# EAGLE library part MAX11634EEE+T (library CurrentSensing)
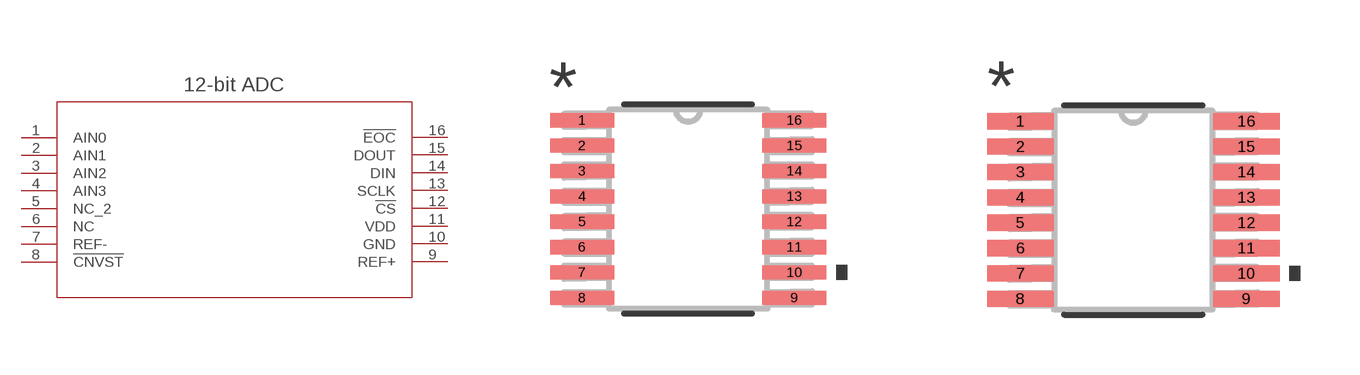
[diagram p0: symbol with the pads of 21-0055H_16; footprints 21-0055H_16, 21-0055H_16-M]

Designator prefix U

## MAX11634EEE+T (BUILT_BY: EMA_UL_Team; MANUFACTURER_PART_NUMBER: MAX11634EEE+T; VENDOR: Maxim Integrated Products)  [21-0055H_16]
1  AIN0  in
2  AIN1  in
3  AIN2  in
4  AIN3  in
5  NC_2  pas
6  NC  pas
7  REF-  pas
8  !CNVST  pas
9  REF+  pas
10  GND  pwr
11  VDD  pwr
12  !CS  pas
13  SCLK  pas
14  DIN  in
15  DOUT  out
16  !EOC  pas

## MAX11634EEE+T21-0055H_16-M (BUILT_BY: EMA_UL_Team; MANUFACTURER_PART_NUMBER: MAX11634EEE+T; VENDOR: Maxim Integrated Products)  [21-0055H_16-M]
Pads as for 21-0055H_16

## MAX11634EEE+T21-0055H_16-L (BUILT_BY: EMA_UL_Team; MANUFACTURER_PART_NUMBER: MAX11634EEE+T; VENDOR: Maxim Integrated Products)  [21-0055H_16-L]
Pads as for 21-0055H_16

## Footprint 21-0055H_16 (pad centres in mm)
smd 1.6 x 0.356: 1 -2.654,2.223; 2 -2.654,1.587; 3 -2.654,0.953; 4 -2.654,0.318; 5 -2.654,-0.318; 6 -2.654,-0.953; 7 -2.654,-1.587; 8 -2.654,-2.223; 9 2.654,-2.223; 10 2.654,-1.587; 11 2.654,-0.953; 12 2.654,-0.318; 13 2.654,0.318; 14 2.654,0.953; 15 2.654,1.587; 16 2.654,2.223

## Footprint 21-0055H_16-M (pad centres in mm)
smd 1.664 x 0.406: 1 -2.826,2.223; 2 -2.826,1.587; 3 -2.826,0.953; 4 -2.826,0.318; 5 -2.826,-0.318; 6 -2.826,-0.953; 7 -2.826,-1.587; 8 -2.826,-2.223; 9 2.826,-2.223; 10 2.826,-1.587; 11 2.826,-0.953; 12 2.826,-0.318; 13 2.826,0.318; 14 2.826,0.953; 15 2.826,1.587; 16 2.826,2.223

## Footprint 21-0055H_16-L (pad centres in mm)
smd 1.257 x 0.305: 1 -2.623,2.223; 2 -2.623,1.587; 3 -2.623,0.953; 4 -2.623,0.318; 5 -2.623,-0.318; 6 -2.623,-0.953; 7 -2.623,-1.587; 8 -2.623,-2.223; 9 2.623,-2.223; 10 2.623,-1.587; 11 2.623,-0.953; 12 2.623,-0.318; 13 2.623,0.318; 14 2.623,0.953; 15 2.623,1.587; 16 2.623,2.223